# Altium schematic symbol library DC_CAP_L.SchLib: 1 symbol
Pins are listed as number, name and electrical type; pins without a type are passive.

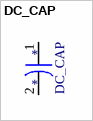
[diagram p0: symbol DC_CAP]

## DC_CAP
designator *
footprint DC_CAP_P
pins: 1, 2